# EAGLE library part HEADER_POS18_? (library con-molex-Micro-Fit-3.0)
Molex - Micro-Fit 3.0 Series connector, 3.00mm (0.118") pitch header, 18 positions.
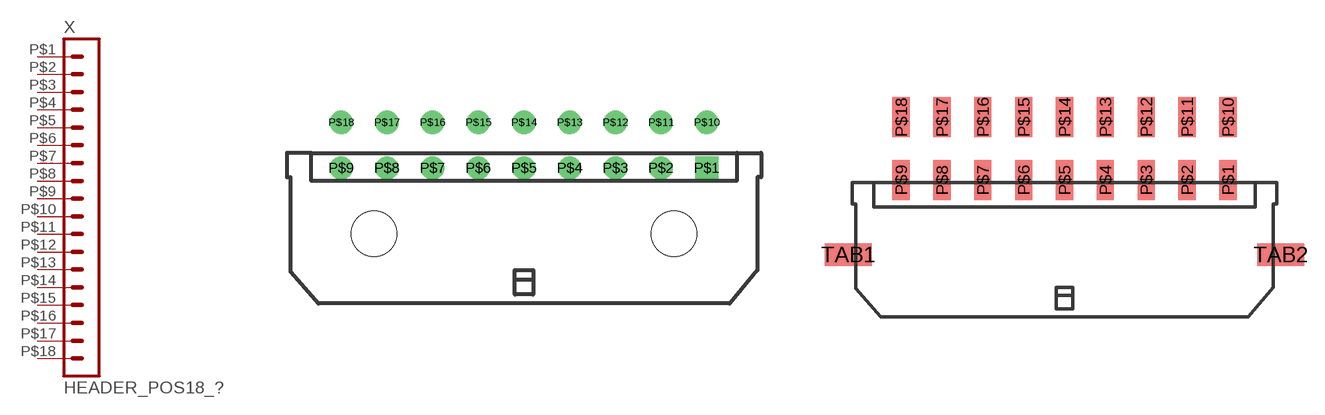
[diagram p9: symbol with the pads of 43045-1800; footprints 43045-1800, 43045-1809]

Designator prefix X

## HEADER_POS18_43045-1800  [43045-1800]
P$1  1  pas
P$2  2  pas
P$3  3  pas
P$4  4  pas
P$5  5  pas
P$6  6  pas
P$7  7  pas
P$8  8  pas
P$9  9  pas
P$10  10  pas
P$11  11  pas
P$12  12  pas
P$13  13  pas
P$14  14  pas
P$15  15  pas
P$16  16  pas
P$17  17  pas
P$18  18  pas

## HEADER_POS18_43045-1809  [43045-1809]
Pads as for 43045-1800

## HEADER_POS18_43045-1806  [43045-1806]
Pads as for 43045-1800

## HEADER_POS18_43045-1812  [43045-1812]
Pads as for 43045-1800

## HEADER_POS18_43045-1815  [43045-1815]
Pads as for 43045-1800

## HEADER_POS18_43045-1818  [43045-1818]
Pads as for 43045-1800

## HEADER_POS18_44914-1801  [44914-1801]
Pads as for 43045-1800

## HEADER_POS18_44769-1801  [44769-1801]
Pads as for 43045-1800

## HEADER_POS18_44432-1801  [44432-1801]
Pads as for 43045-1800

## HEADER_POS18_44428-1801  [44428-1801]
Pads as for 43045-1800

## HEADER_POS18_44764-1801  [44764-1801]
Pads as for 43045-1800

## Footprint 43045-1800 (pad centres in mm)
Molex Micro-Fit 3.0 - Header Shrouded, Thru hole, Right Angle; P/N: SD-43045-1800, SD-43045-1801, SD-43045-1802 http://www.molex.com/pdm_docs/sd/430450200_sd.pdf
drill 1.02 square: P$1 12,4.32
drill 1.02 round: P$2 9,4.32; P$3 6,4.32; P$4 3,4.32; P$5 0,4.32; P$6 -3,4.32; P$7 -6,4.32; P$8 -9,4.32; P$9 -12,4.32; P$10 12,7.32; P$11 9,7.32; P$12 6,7.32; P$13 3,7.32; P$14 0,7.32; P$15 -3,7.32; P$16 -6,7.32; P$17 -9,7.32; P$18 -12,7.32
hole 3 at 9.85,0
hole 3 at -9.85,0

## Footprint 43045-1809 (pad centres in mm)
Molex Micro-Fit 3.0 - Header Shrouded, Surface mount, Right Angle, Solderable tabs; P/N: SD-43045-1809, SD-43045-1810, SD-43045-1811 http://www.molex.com/pdm_docs/sd/430450209_sd.pdf
smd 1.27 x 2.92: P$1 12,5.47; P$2 9,5.47; P$3 6,5.47; P$4 3,5.47; P$5 0,5.47; P$6 -3,5.47; P$7 -6,5.47; P$8 -9,5.47; P$9 -12,5.47; P$10 12,10.1; P$11 9,10.1; P$12 6,10.1; P$13 3,10.1; P$14 0,10.1; P$15 -3,10.1; P$16 -6,10.1; P$17 -9,10.1; P$18 -12,10.1
smd 3.43 x 1.65: TAB1 -15.88,0; TAB2 15.88,0

## Footprint 43045-1806 (pad centres in mm)
Molex Micro-Fit 3.0 - Header Shrouded, Surface mount, Right Angle, Solderable Retention clips; P/N: SD-43045-1806, SD-43045-1807, SD-43045-1808 http://www.molex.com/pdm_docs/sd/430450206_sd.pdf
smd 1.27 x 2.92: P$1 12,5.47; P$2 9,5.47; P$3 6,5.47; P$4 3,5.47; P$5 0,5.47; P$6 -3,5.47; P$7 -6,5.47; P$8 -9,5.47; P$9 -12,5.47; P$10 12,10.1; P$11 9,10.1; P$12 6,10.1; P$13 3,10.1; P$14 0,10.1; P$15 -3,10.1; P$16 -6,10.1; P$17 -9,10.1; P$18 -12,10.1
hole 2.41 at -14.15,0
hole 2.41 at 14.15,0

## Footprint 43045-1812 (pad centres in mm)
Molex Micro-Fit 3.0 - Header Shrouded, Thru hole, Vertical, with Pegs; P/N: SD-43045-1812, SD-43045-1813, SD-43045-1814 http://www.molex.com/pdm_docs/sd/430450212_sd.pdf
drill 1.02 square: P$1 12,0
drill 1.02 round: P$2 9,0; P$3 6,0; P$4 3,0; P$5 0,0; P$6 -3,0; P$7 -6,0; P$8 -9,0; P$9 -12,0; P$10 12,3; P$11 9,3; P$12 6,3; P$13 3,3; P$14 0,3; P$15 -3,3; P$16 -6,3; P$17 -9,3; P$18 -12,3
hole 1.02 at 15,3.94
hole 1.02 at -15,3.94

## Footprint 43045-1815 (pad centres in mm)
Molex Micro-Fit 3.0 - Header Shrouded, Surface mount, Vertical, with Solderable Retention Clips; P/N: SD-43045-1815, SD-43045-1816, SD-43045-1817 http://www.molex.com/pdm_docs/sd/430450215_sd.pdf
smd 1.27 x 2.54: P$1 12,-4.7; P$2 9,-4.7; P$3 6,-4.7; P$4 3,-4.7; P$5 0,-4.7; P$6 -3,-4.7; P$7 -6,-4.7; P$8 -9,-4.7; P$9 -12,-4.7; P$10 12,4.7; P$11 9,4.7; P$12 6,4.7; P$13 3,4.7; P$14 0,4.7; P$15 -3,4.7; P$16 -6,4.7; P$17 -9,4.7; P$18 -12,4.7
hole 2.41 at -14.15,0
hole 2.41 at 14.15,0

## Footprint 43045-1818 (pad centres in mm)
Molex Micro-Fit 3.0 - Header Shrouded, Surface mount, Vertical, with Solder Tabs; P/N: SD-43045-1818, SD-43045-1819, SD-43045-1820 http://www.molex.com/pdm_docs/sd/430450218_sd.pdf
smd 3.43 x 1.65: CLIP1 -15.88,0; CLIP2 15.88,0
smd 1.27 x 2.54: P$1 12,-4.7; P$2 9,-4.7; P$3 6,-4.7; P$4 3,-4.7; P$5 0,-4.7; P$6 -3,-4.7; P$7 -6,-4.7; P$8 -9,-4.7; P$9 -12,-4.7; P$10 12,4.7; P$11 9,4.7; P$12 6,4.7; P$13 3,4.7; P$14 0,4.7; P$15 -3,4.7; P$16 -6,4.7; P$17 -9,4.7; P$18 -12,4.7

## Footprint 44914-1801 (pad centres in mm)
Molex Micro-Fit 3.0 - Header Shrouded, Thru hole, Vertical, Press-fit, with Pegs; P/N: SD-44914-1801, SD-44914-1802, SD-44914-1803 http://www.molex.com/pdm_docs/sd/449140201_sd.pdf
drill 1.09 square: P$1 12,0
drill 1.09 round: P$2 9,0; P$3 6,0; P$4 3,0; P$5 0,0; P$6 -3,0; P$7 -6,0; P$8 -9,0; P$9 -12,0; P$10 12,3; P$11 9,3; P$12 6,3; P$13 3,3; P$14 0,3; P$15 -3,3; P$16 -6,3; P$17 -9,3; P$18 -12,3
hole 1.02 at 15,3.94
hole 1.02 at -15,3.94

## Footprint 44769-1801 (pad centres in mm)
Molex Micro-Fit 3.0 - Board-to-Board BMI (Blind Mate Interface), Receptacle Vertical, Thru hole; P/N: SD-44769-1801, SD-44769-1802, SD-44769-1803 http://www.molex.com/pdm_docs/sd/447690401_sd.pdf
drill 1.02 square: P$1 -12,0
drill 1.02 round: P$2 -9,0; P$3 -6,0; P$4 -3,0; P$5 0,0; P$6 3,0; P$7 6,0; P$8 9,0; P$9 12,0; P$10 -12,3; P$11 -9,3; P$12 -6,3; P$13 -3,3; P$14 0,3; P$15 3,3; P$16 6,3; P$17 9,3; P$18 12,3
hole 2.36 at 15,3
hole 2.36 at -15,3

## Footprint 44432-1801 (pad centres in mm)
Molex Micro-Fit 3.0 - Board-to-Board BMI (Blind Mate Interface), Header Vertical, Thru hole, with Pegs; P/N: SD-44432-1801, SD-44432-1802, SD-44432-1803 http://www.molex.com/pdm_docs/sd/444320401_sd.pdf
drill 1.02 square: P$1 12,-3
drill 1.02 round: P$2 9,-3; P$3 6,-3; P$4 3,-3; P$5 0,-3; P$6 -3,-3; P$7 -6,-3; P$8 -9,-3; P$9 -12,-3; P$10 12,0; P$11 9,0; P$12 6,0; P$13 3,0; P$14 0,0; P$15 -3,0; P$16 -6,0; P$17 -9,0; P$18 -12,0
hole 1.57 at -16.5,1.45
hole 1.57 at 16.5,1.45

## Footprint 44428-1801 (pad centres in mm)
Molex Micro-Fit 3.0 - Board-to-Board BMI (Blind Mate Interface), Header Right Angle, Thru hole, with Pegs; P/N: SD-44428-1801, SD-44428-1802, SD-44428-1803 http://www.molex.com/pdm_docs/sd/444280401_sd.pdf
drill 1.02 square: P$1 12,0
drill 1.02 round: P$2 9,0; P$3 6,0; P$4 3,0; P$5 0,0; P$6 -3,0; P$7 -6,0; P$8 -9,0; P$9 -12,0; P$10 12,3; P$11 9,3; P$12 6,3; P$13 3,3; P$14 0,3; P$15 -3,3; P$16 -6,3; P$17 -9,3; P$18 -12,3
hole 3 at 9.84,-8.53
hole 3 at -9.84,-8.53

## Footprint 44764-1801 (pad centres in mm)
Molex Micro-Fit 3.0 - Board-to-Board BMI (Blind Mate Interface), Receptacle, Right Angle, Thru hole; P/N: SD-44764-1801, SD-44764-1802, SD-44764-1803 http://www.molex.com/pdm_docs/sd/447640401_sd.pdf
drill 1.02 square: P$1 -12,0
drill 1.02 round: P$2 -9,0; P$3 -6,0; P$4 -3,0; P$5 0,0; P$6 3,0; P$7 6,0; P$8 9,0; P$9 12,0; P$10 -12,3; P$11 -9,3; P$12 -6,3; P$13 -3,3; P$14 0,3; P$15 3,3; P$16 6,3; P$17 9,3; P$18 12,3
hole 2.36 at -10.5,-3.05
hole 2.36 at 10.5,-3.05